# Altium schematic symbol library Enpirion.SchLib: 1 symbol
Pins are listed as number, name and electrical type; pins without a type are passive.

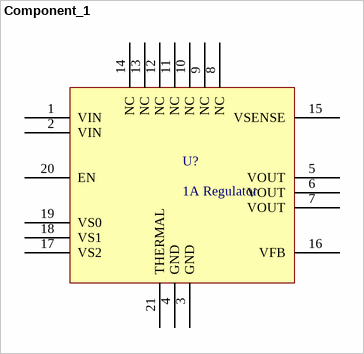
[diagram p0: symbol Component_1]

## Component_1
designator U?, comment 1A Regulator
1A Step Down Voltage Converter; Manufacturer 1: Enpirion; Manufacturer 1 Part Number: EN5311QI; Supplier 1: Mouser; Supplier 1 Part Number: 884-EN5311QI
footprint QFN65P400X500X80-20N (QFN, 20-Leads, Body 5.2x4.2mm (max), Pitch 0.65mm, IPC Medium Density)
pins: 1 VIN, 2 VIN, 3 GND, 4 GND, 5 VOUT, 6 VOUT, 7 VOUT, 8 NC, 9 NC, 10 NC, 11 NC, 12 NC, 13 NC, 14 NC, 15 VSENSE, 16 VFB, 17 VS2, 18 VS1, 19 VS0, 20 EN, 21 THERMAL